# Altium schematic symbol library transistors.SchLib: 2 symbols
Pins are listed as number, name and electrical type; pins without a type are passive.

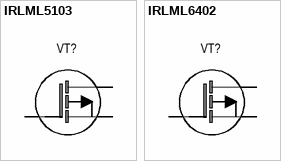
[diagram p0: symbols IRLML5103 to IRLML6402]

## IRLML5103
designator VT?
p-mosfet   -30V 0.76A Vgs=-1V; PartNumber: IRLML5103TRPBF; Supplier: Chipidipc; Unit Price: 9; WebLink: https://www.chipdip.ru/product/irlml5103tr
footprint SOT-23-3
pins: 1 "Gate", 2 "Source", 3 "Drain"

## IRLML6402
designator VT?
p-mosfet   -20V 3.7A; PartNumber: IRLML6401TRPBF; Supplier: Terraelectronica; Unit Price: 5.4
footprint SOT-23-3
pins: 1 "Gate", 2 "Source", 3 "Drain"